# Altium footprint library BSZ060NE2LSATMA1.PcbLib: 1 footprints
Each footprint in its own frame and in the unit in brackets; x right, y up, seen from the top. Pads: shape width x height; smd on the part's side, far side on the other; paste and mask are expansions set on the pad; w line width, h text height; cw(c..) or ccw(c..) is an arc to the next point about the centre after c.
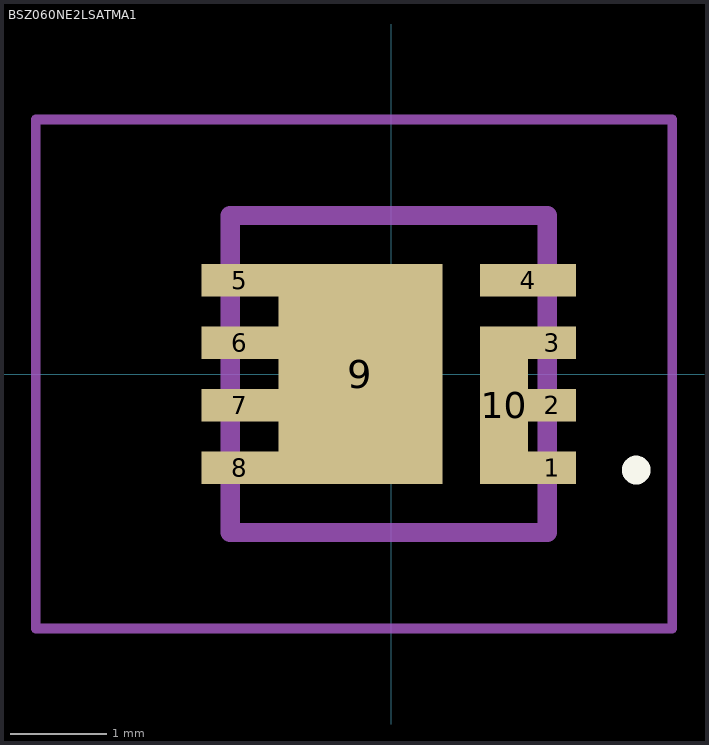
[diagram p0: the footprint, top view; thin cyan lines are the x and y axes]

## BSZ060NE2LSATMA1 [mm]
pads (10):
  rect 0.5x0.34 smd: 1(1.675,-0.975) 2(1.675,-0.325) 3(1.675,0.325)
  rect 1x0.34 smd: 4(1.425,0.975)
  rect 0.8x0.34 smd: 5(-1.575,0.975) 6(-1.575,0.325) 7(-1.575,-0.325) 8(-1.575,-0.975)
  rect 1.71x2.29 smd: 9(-0.32,0)
  rect 0.5x1.64 smd: 10(1.175,-0.325)
Top Overlay:
  lines w0.2: 2.5,-1 cw(c2.55,-1) 2.6,-1 ; 2.5,-1 2.5,-1 ; 2.5,-1 ccw(c2.55,-1) 2.6,-1 ; 2.5,-1 cw(c2.55,-1) 2.6,-1 ; 2.6,-1 2.6,-1 ; 2.6,-1 2.6,-1
Mechanical 15:
  lines w0.2: -1.675,-1.65 1.625,-1.65 1.625,1.65 -1.675,1.65 -1.675,-1.65
Mechanical 20:
  lines w0.1: -3.7,-2.65 2.925,-2.65 2.925,2.65 -3.7,2.65 -3.7,-2.65